# Altium footprint library Empreintes_LIB_atelier1A.PcbLib: 79 footprints (part 5 of 5)
Each footprint in its own frame and in the unit in brackets; x right, y up, seen from the top. Pads: shape width x height; smd on the part's side, far side on the other; paste and mask are expansions set on the pad; w line width, h text height; cw(c..) or ccw(c..) is an arc to the next point about the centre after c.
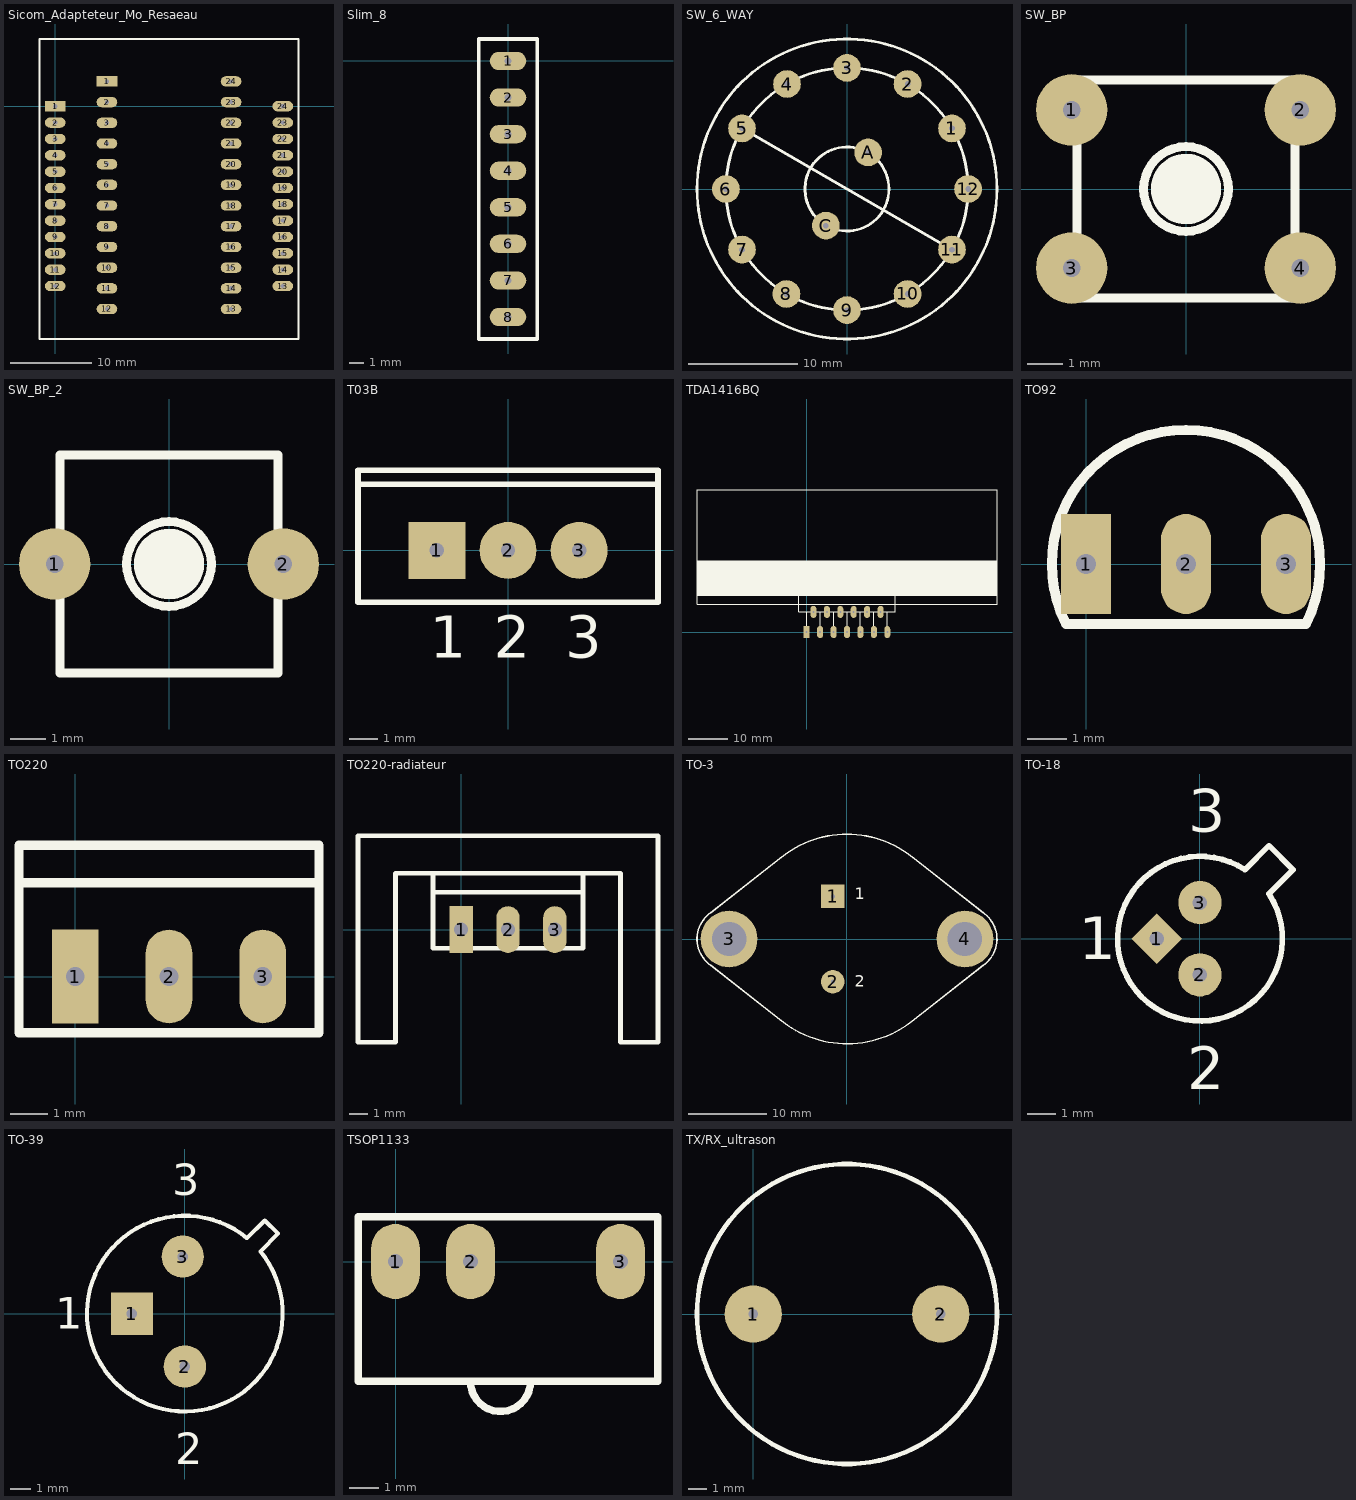
[diagram p4: the footprints below, top view; thin cyan lines are the x and y axes]

## Sicom_Adapteteur_Mo_Resaeau [mil]
pads (48):
  rect 100x50 hole 20: 1(0,0) 1(250,120)
  oval 100x50 hole 20: 2(0,-79) 2(250,20) 3(0,-158) 3(250,-80) 4(0,-237) 4(250,-180) 5(0,-316) 5(250,-280) 6(0,-395) 6(250,-380) 7(0,-474) 7(250,-480) 8(0,-553) 8(250,-580) 9(0,-632) 9(250,-680) 10(0,-711) 10(250,-780) 11(0,-790) 11(250,-880) 12(0,-869) 12(250,-980) 13(850,-980) 13(1100,-869) 14(850,-880) 14(1100,-790) 15(850,-780) 15(1100,-711) 16(850,-680) 16(1100,-632) 17(850,-580) 17(1100,-553) 18(850,-480) 18(1100,-474) 19(850,-380) 19(1100,-395) 20(850,-280) 20(1100,-316) 21(850,-180) 21(1100,-237) 22(850,-80) 22(1100,-158) 23(850,20) 23(1100,-79) 24(850,120) 24(1100,0)
TopOverlay:
  lines w10: -75,-1125 -75,325 1175,325 1175,-1125 -75,-1125

## Slim_8 [mil]
pads (8):
  oval 100x50 hole 20: 1(0,0) 2(0,-100) 3(0,-200) 4(0,-300) 5(0,-400) 6(0,-500) 7(0,-600) 8(0,-700)
TopOverlay:
  lines w10: -80,-760 80,-760 80,60 -80,60 -80,-760

## SW_6_WAY [mm]
pads (14):
  round 2.54 hole 0.508: 1(9.625,5.55) 2(5.55,9.625) 3(0,11.1) 4(-5.5,9.625) 5(-9.625,5.55) 6(-11.1,0) 7(-9.625,-5.55) 8(-5.55,-9.625) 9(0,-11.1) 10(5.55,-9.625) 11(9.625,-5.55) 12(11.1,0) A(1.935,3.356) C(-1.935,-3.356)
TopOverlay:
  circle w0.254: c0,0 r11.1
  circle w0.254: c0,0 r3.85
  circle w0.254: c0,0 r13.75
  lines w0.254: -9.625,5.55 9.625,-5.55

## SW_BP [mil]
pads (4):
  round 80 hole 20: 1(-127.95,88.58) 2(127.95,88.58) 3(-127.95,-88.58) 4(127.95,-88.58)
TopOverlay:
  circle w10: c0,0 r47.4
  circle w39.37: c0,0 r19.68
  lines w10: -122.05,-122.05 -122.05,122.05 122.05,122.05 122.05,-122.05 -122.05,-122.05

## SW_BP_2 [mil]
pads (2):
  round 80 hole 20: 1(-127.95,0) 2(127.95,0)
TopOverlay:
  circle w10: c0,0 r47.4
  circle w39.37: c0,0 r19.68
  lines w10: -122.05,-122.05 -122.05,122.05 122.05,122.05 122.05,-122.05 -122.05,-122.05

## T03B [mil] "TO, Thru-Hole, Vertical, Heatsink Mounted; 3 In-Line Leads; Pitch 2.54 mm"
height 763.78
pads (3):
  rect 80x80 hole 20: 1(-100,0)
  round 80 hole 20: 2(0,0) 3(100,0)
TopOverlay:
  lines w7.87: -210.63,92.52 210.63,92.52 ; -210.63,-72.83 -210.63,112.2 210.63,112.2 210.63,-72.83 -210.63,-72.83
  text "3" at 80.31,-150.59 h59.06
  text "1" at -109.84,-150.59 h59.06
  text "2" at -19.68,-150.59 h59.06

## TDA1416BQ [mil]
pads (13):
  rect 60x120 hole 20: 1(0,0)
  oval 60x120 hole 20: 2(66.93,200.79) 3(133.86,0) 4(200.79,200.79) 5(267.72,0) 6(334.65,200.79) 7(401.57,0) 8(468.5,200.79) 9(535.43,0) 10(602.36,200.79) 11(669.29,0) 12(736.22,200.79) 13(803.15,0)
TopOverlay:
  rectangle: -1094.49,366.14 1897.64,712.6
  lines w10: -1094.49,366.14 1897.64,366.14 ; -1094.49,708.66 1897.64,708.66 ; 0,0 0,200.79 ; 133.86,0 133.86,200.79 ; 267.72,0 267.72,200.79 ; 401.57,0 401.57,200.79 ; 531.5,200.79 535.43,196.85 535.43,0 ; 669.29,0 669.29,200.79 ; 803.15,0 803.15,200.79 ; -1094.49,275.59 1897.64,275.59 1897.64,1417.32 -1094.49,1417.32 -1094.49,275.59 ; -78.74,200.79 86.61,200.79 881.89,200.79 881.89,366.14 251.97,366.14 -78.74,366.14 -78.74,200.79

## TO92 [mil]
pads (3):
  rect 50x100 hole 20: 1(0,0)
  oval 50x100 hole 20: 2(100,0) 3(200,0)
TopOverlay:
  lines w10: -20,-60 cw(c100,0) 220,-60 -20,-60

## TO220 [mil]
pads (3):
  rect 50x100 hole 20: 1(0,0)
  oval 50x100 hole 20: 2(100,0) 3(200,0)
TopOverlay:
  lines w10: -60,100 260,100 ; -60,-60 -60,140 260,140 260,-60 -60,-60

## TO220-radiateur [mil]
pads (3):
  rect 50x100 hole 30: 1(0,0)
  oval 50x100 hole 30: 2(100,0) 3(200,0)
TopOverlay:
  lines w10: -60,80 260,80 ; -220,-240 -140,-240 -140,120 340,120 340,-240 420,-240 420,200 -220,200 -220,-240 ; -60,-40 260,-40 260,120 -60,120 -60,-40

## TO-3 [mm] "Oval Flange Mount with (2) Offset Leads; Pin Spacing 10.92 mm; Lead Dia. 1.15 mm (max)"
height 8.92
pads (4):
  rect 3x3 hole 0.508: 1(-1.815,5.46)
  round 3 hole 0.508: 2(-1.815,-5.46)
  round 7.25 hole 4.4: 3(-15.075,0) 4(15.075,0)
TopOverlay:
  lines w0.2: -17.427,-3.359 -8.299,-10.521 ; -17.427,-3.358 cw(c-15.075,0) -17.427,3.359 -8.299,10.521 ; -8.613,-10.265 ccw(c0,0) 8.298,-10.521 17.427,-3.359 ; -8.613,10.265 cw(c0,0) 8.613,10.265 ; 8.299,10.521 17.427,3.359 ; 17.308,3.439 cw(c15.075,0) 17.427,-3.358
  text "2" at 1.016,-6.096 h1.5
  text "1" at 1.016,5.08 h1.5

## TO-18 [mil] "Can; 3 Leads; Pin Circle Dia. 2.54 mm; Lead Dia. 0.49 mm (max)"
height 208.66
pads (3):
  rect 50x50 hole 20 rot 45: 1(-60,0)
  round 60 hole 20: 2(0,-50) 3(0,50)
TopOverlay:
  lines w7.87: 62.28,95.69 ccw(c0,0) 95.69,62.28 129.1,95.69 95.69,129.1 62.28,95.69
  text "3" at -16.5,148.5 h59.05
  text "2" at -17.44,-208.31 h59.05
  text "1" at -167.79,-28.27 h59.05

## TO-39 [mil] "Can; 3 Leads; Pin Circle Dia. 5.08 mm; Lead Dia. 0.49 mm (max)"
height 259.84
pads (3):
  rect 80x80 hole 20: 1(-100,0)
  round 80 hole 20: 2(0,-100) 3(-3.94,107.87)
TopOverlay:
  lines w7.87: 117.71,142.77 ccw(c0,0) 142.77,117.71 176.18,151.12 151.12,176.18 117.71,142.77
  text "3" at -23.43,223.74 h59.05
  text "2" at -18.46,-284.25 h59.05
  text "1" at -244.84,-28.86 h59.05

## TSOP1133 [mil]
pads (3):
  oval 65x100 hole 20: 1(0,0) 2(100,0) 3(300,0)
TopOverlay:
  lines w10: 100,-160 ccw(c140,-160) 180,-160 ; -50,-160 350,-160 350,60 343.7,60 -50,60 -50,-160

## TX/RX_ultrason [mil]
pads (2):
  round 120 hole 20: 1(0,0) 2(393.7,0)
TopOverlay:
  circle w10: c196.85,0 r314.96